# EAGLE library part AS-ITM-00172 (library tinycircuits)
TVS DIODE 5VWM 12.5VC SC70-6
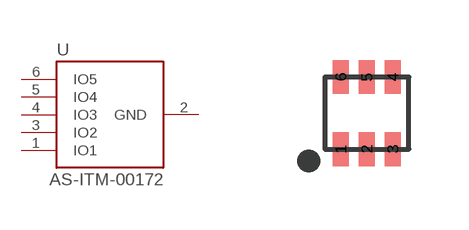
[diagram p75: symbol with the pads of SMF05C; footprint SMF05C]

Designator prefix U

## AS-ITM-00172 (PARTNO: AS-ITM-00172; VALUE: SMF05C)  [SMF05C]
1  IO1
2  GND
3  IO2
4  IO3
5  IO4
6  IO5

## Footprint SMF05C (pad centres in mm)
smd 0.4 x 0.85: 1 -0.65,-0.87; 2 0,-0.87; 3 0.65,-0.87; 4 0.65,0.93; 5 0,0.93; 6 -0.65,0.93